# Altium schematic symbol library Microcontroller.SchLib: 1 symbol
Pins are listed as number, name and electrical type; pins without a type are passive.

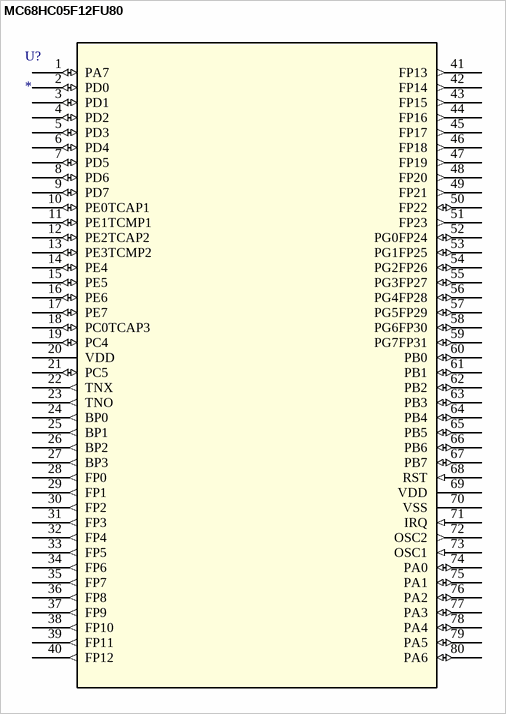
[diagram p0: symbol MC68HC05F12FU80]

## MC68HC05F12FU80
designator U?
Imported; OriginalName: MC68HC05F12FU80; Value: Value; Type: Type; RefDes: RefDes
footprint QFP80-20X20_P64
pins: 1 PA7 (io), 2 PD0 (io), 3 PD1 (io), 4 PD2 (io), 5 PD3 (io), 6 PD4 (io), 7 PD5 (io), 8 PD6 (io), 9 PD7 (io), 10 PE0TCAP1 (io), 11 PE1TCMP1 (io), 12 PE2TCAP2 (io), 13 PE3TCMP2 (io), 14 PE4 (io), 15 PE5 (io), 16 PE6 (io), 17 PE7 (io), 18 PC0TCAP3 (io), 19 PC4 (io), 20 VDD (power), 21 PC5 (io), 22 TNX (out), 23 TNO (out), 24 BP0 (out), 25 BP1 (out), 26 BP2 (out), 27 BP3 (out), 28 FP0 (out), 29 FP1 (out), 30 FP2 (out), 31 FP3 (out), 32 FP4 (out), 33 FP5 (out), 34 FP6 (out), 35 FP7 (out), 36 FP8 (out), 37 FP9 (out), 38 FP10 (out), 39 FP11 (out), 40 FP12 (out), 41 FP13 (out), 42 FP14 (out), 43 FP15 (out), 44 FP16 (out), 45 FP17 (out), 46 FP18 (out), 47 FP19 (out), 48 FP20 (out), 49 FP21 (out), 50 FP22 (io), 51 FP23 (out), 52 PG0FP24 (io), 53 PG1FP25 (io), 54 PG2FP26 (io), 55 PG3FP27 (io), 56 PG4FP28 (io), 57 PG5FP29 (io), 58 PG6FP30 (io), 59 PG7FP31 (io), 60 PB0 (io), 61 PB1 (io), 62 PB2 (io), 63 PB3 (io), 64 PB4 (io), 65 PB5 (io), 66 PB6 (io), 67 PB7 (io), 68 RST (in), 69 VDD (power), 70 VSS (power), 71 IRQ (in), 72 OSC2 (out), 73 OSC1 (in), 74 PA0 (io), 75 PA1 (io), 76 PA2 (io), 77 PA3 (io), 78 PA4 (io), 79 PA5 (io), 80 PA6 (io)